# Altium footprint library PCB - RESISTOR - CHIP - KOA RES RK73 0201_0603.PCBLIB: 1 footprints
Each footprint in its own frame and in the unit in brackets; x right, y up, seen from the top. Pads: shape width x height; smd on the part's side, far side on the other; paste and mask are expansions set on the pad; w line width, h text height; cw(c..) or ccw(c..) is an arc to the next point about the centre after c.
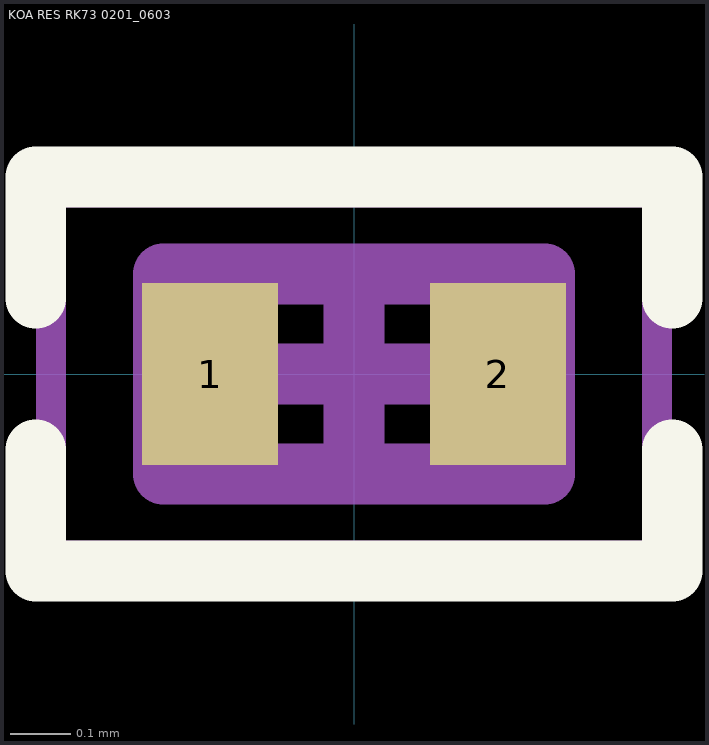
[diagram p0: the footprint, top view; thin cyan lines are the x and y axes]

## KOA RES RK73 0201_0603 [mm] "Chip Resistor, 2-Leads, Body 0.60x0.30mm"
height 0.26
pads (2):
  rect 0.225x0.3 smd: 1(-0.238,0) 2(0.238,0)
Top Overlay:
  lines w0.1: -0.525,-0.125 -0.525,-0.325 0.525,-0.325 0.525,-0.125 ; -0.525,0.125 -0.525,0.325 0.525,0.325 0.525,0.125
Mechanical 13:
  lines w0.1: -0.315,-0.165 -0.315,0.165 0.315,0.165 0.315,-0.165 -0.315,-0.165
Mechanical 15:
  lines w0.05: -0.5,-0.3 -0.5,0.3 0.5,0.3 0.5,-0.3 -0.5,-0.3
  lines w0.1: -0.165,0 0.165,0 ; 0,-0.165 0,0.165
3D body "RES 0201.STEP": height 0.21, standoff -0.01, extent -0.3,-0.15 0.3,0.15